# Altium footprint library NSC LDO.PcbLib: 95 footprints (part 6 of 6)
Each footprint in its own frame and in the unit in brackets; x right, y up, seen from the top. Pads: shape width x height; smd on the part's side, far side on the other; paste and mask are expansions set on the pad; w line width, h text height; cw(c..) or ccw(c..) is an arc to the next point about the centre after c.
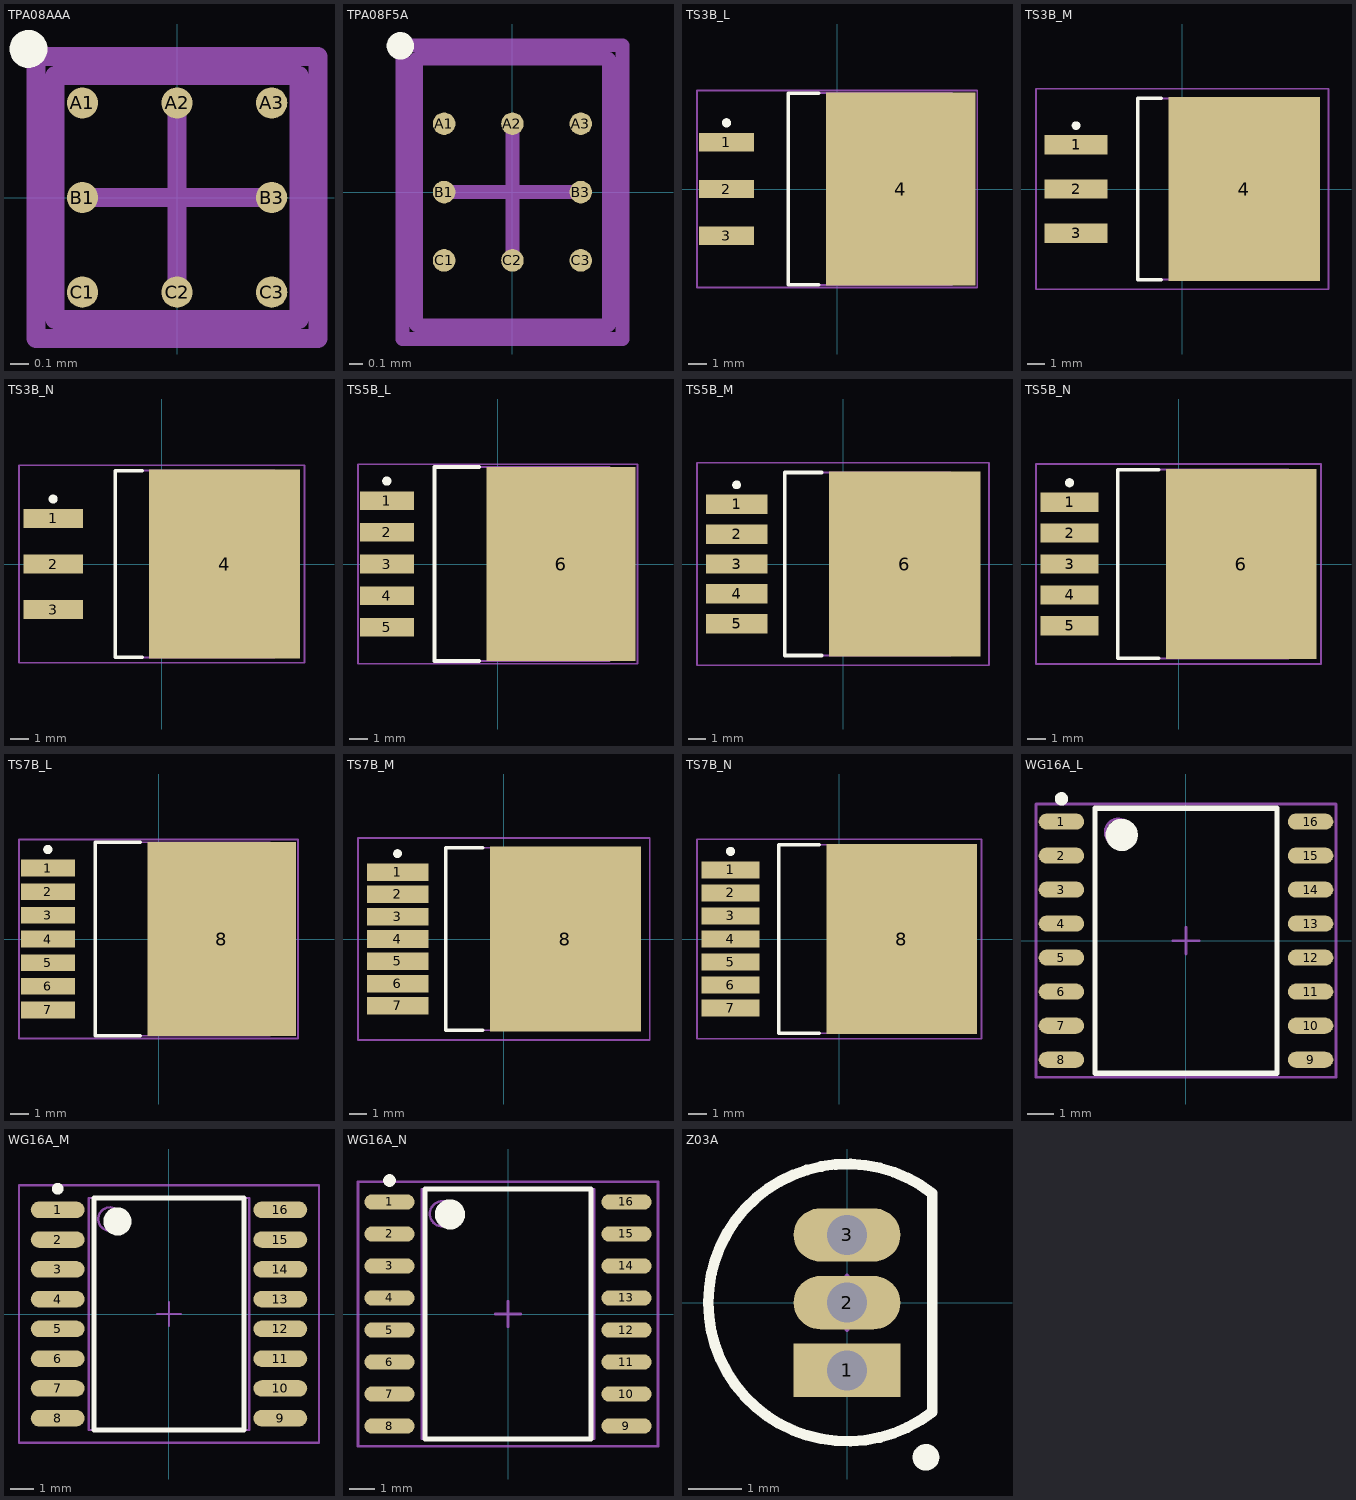
[diagram p5: the footprints below, top view; thin cyan lines are the x and y axes]

## TPA08AAA [mm] "Micro SMD, 8-Leads, Body 1.29x1.29mm, Pitch 0.5mm, NSC Recommended"
height 0.58
pads (8):
  round 0.165 smd paste-0.082 mask+0.05: A1(-0.5,0.5) A2(0,0.5) A3(0.5,0.5) B1(-0.5,0) B3(0.5,0) C1(-0.5,-0.5) C2(0,-0.5) C3(0.5,-0.5)
Top Overlay:
  circle w0.1: c-0.785,0.785 r0.05
Top Paste:
  circle w0.05: c0.625,0.425 r0.025
  circle w0.05: c0.425,0.625 r0.025
  circle w0.05: c0.425,0.425 r0.025
  circle w0.05: c0.625,0.625 r0.025
  circle w0.05: c-0.425,0.425 r0.025
  circle w0.05: c-0.625,0.625 r0.025
  circle w0.05: c-0.625,0.425 r0.025
  circle w0.05: c-0.425,0.625 r0.025
  circle w0.05: c0.1,0.425 r0.025
  circle w0.05: c-0.1,0.625 r0.025
  circle w0.05: c-0.1,0.425 r0.025
  circle w0.05: c0.1,0.625 r0.025
  circle w0.05: c0.1,-0.425 r0.025
  circle w0.05: c-0.1,-0.625 r0.025
  circle w0.05: c-0.1,-0.425 r0.025
  circle w0.05: c0.1,-0.625 r0.025
  circle w0.05: c-0.425,-0.425 r0.025
  circle w0.05: c-0.625,-0.625 r0.025
  circle w0.05: c-0.625,-0.425 r0.025
  circle w0.05: c-0.425,-0.625 r0.025
  circle w0.05: c0.625,-0.425 r0.025
  circle w0.05: c0.425,-0.625 r0.025
  circle w0.05: c0.425,-0.425 r0.025
  circle w0.05: c0.625,-0.625 r0.025
  circle w0.05: c0.625,-0.1 r0.025
  circle w0.05: c0.425,0.1 r0.025
  circle w0.05: c0.425,-0.1 r0.025
  circle w0.05: c0.625,0.1 r0.025
  circle w0.05: c-0.425,0.1 r0.025
  circle w0.05: c-0.625,-0.1 r0.025
  circle w0.05: c-0.625,0.1 r0.025
  circle w0.05: c-0.425,-0.1 r0.025
  rectangle: 0.425,0.375 0.625,0.425
  region: 0.625,0.675 0.425,0.675 0.425,0.625 0.625,0.625
  region: 0.375,0.625 0.375,0.425 0.425,0.425 0.425,0.625
  region: 0.425,0.625 0.425,0.425 0.625,0.425 0.625,0.625
  region: 0.675,0.425 0.675,0.625 0.625,0.625 0.625,0.425
  rectangle: -0.625,0.375 -0.425,0.425
  region: -0.425,0.675 -0.625,0.675 -0.625,0.625 -0.425,0.625
  region: -0.675,0.625 -0.675,0.425 -0.625,0.425 -0.625,0.625
  region: -0.625,0.625 -0.625,0.425 -0.425,0.425 -0.425,0.625
  region: -0.375,0.425 -0.375,0.625 -0.425,0.625 -0.425,0.425
  rectangle: -0.1,0.375 0.1,0.425
  region: 0.1,0.675 -0.1,0.675 -0.1,0.625 0.1,0.625
  region: -0.15,0.625 -0.15,0.425 -0.1,0.425 -0.1,0.625
  region: -0.1,0.625 -0.1,0.425 0.1,0.425 0.1,0.625
  region: 0.15,0.425 0.15,0.625 0.1,0.625 0.1,0.425
  region: 0.15,-0.625 0.15,-0.425 0.1,-0.425 0.1,-0.625
  region: -0.1,-0.425 -0.1,-0.625 0.1,-0.625 0.1,-0.425
  region: -0.15,-0.425 -0.15,-0.625 -0.1,-0.625 -0.1,-0.425
  region: 0.1,-0.375 -0.1,-0.375 -0.1,-0.425 0.1,-0.425
  rectangle: -0.1,-0.675 0.1,-0.625
  region: -0.375,-0.625 -0.375,-0.425 -0.425,-0.425 -0.425,-0.625
  region: -0.625,-0.425 -0.625,-0.625 -0.425,-0.625 -0.425,-0.425
  region: -0.675,-0.425 -0.675,-0.625 -0.625,-0.625 -0.625,-0.425
  region: -0.425,-0.375 -0.625,-0.375 -0.625,-0.425 -0.425,-0.425
  rectangle: -0.625,-0.675 -0.425,-0.625
  region: 0.675,-0.625 0.675,-0.425 0.625,-0.425 0.625,-0.625
  region: 0.425,-0.425 0.425,-0.625 0.625,-0.625 0.625,-0.425
  region: 0.375,-0.425 0.375,-0.625 0.425,-0.625 0.425,-0.425
  region: 0.625,-0.375 0.425,-0.375 0.425,-0.425 0.625,-0.425
  rectangle: 0.425,-0.675 0.625,-0.625
  rectangle: 0.425,-0.15 0.625,-0.1
  region: 0.625,0.15 0.425,0.15 0.425,0.1 0.625,0.1
  region: 0.375,0.1 0.375,-0.1 0.425,-0.1 0.425,0.1
  region: 0.425,0.1 0.425,-0.1 0.625,-0.1 0.625,0.1
  region: 0.675,-0.1 0.675,0.1 0.625,0.1 0.625,-0.1
  region: -0.375,-0.1 -0.375,0.1 -0.425,0.1 -0.425,-0.1
  region: -0.625,0.1 -0.625,-0.1 -0.425,-0.1 -0.425,0.1
  region: -0.675,0.1 -0.675,-0.1 -0.625,-0.1 -0.625,0.1
  region: -0.425,0.15 -0.625,0.15 -0.625,0.1 -0.425,0.1
  rectangle: -0.625,-0.15 -0.425,-0.1
Mechanical 13:
  lines w0.1: -0.645,-0.645 0.645,-0.645 0.645,0.645 -0.645,0.645 -0.645,-0.645
Mechanical 15:
  lines w0.1: -0.5,0 0.5,0 ; 0,-0.5 0,0.5 ; -0.745,-0.745 0.745,-0.745 0.745,0.745 -0.745,0.745 -0.745,-0.745
3D body: height 0.58, standoff 0, extent -0.644,-0.644 0.644,0.644

## TPA08F5A [mm] "Micro SMD, 8-Leads, Body 1.95x1.41mm, Pitch 0.5mm, NSC Recommended"
height 0.58
pads (8):
  round 0.165 smd paste-0.082 mask+0.05: A1(-0.5,0.5) A2(0,0.5) A3(0.5,0.5) B1(-0.5,0) B3(0.5,0) C1(-0.5,-0.5) C2(0,-0.5) C3(0.5,-0.5)
Top Overlay:
  circle w0.1: c-0.82,1.07 r0.05
Top Paste:
  circle w0.05: c0.625,0.425 r0.025
  circle w0.05: c0.425,0.625 r0.025
  circle w0.05: c0.425,0.425 r0.025
  circle w0.05: c0.625,0.625 r0.025
  circle w0.05: c-0.425,0.425 r0.025
  circle w0.05: c-0.625,0.625 r0.025
  circle w0.05: c-0.625,0.425 r0.025
  circle w0.05: c-0.425,0.625 r0.025
  circle w0.05: c0.1,0.425 r0.025
  circle w0.05: c-0.1,0.625 r0.025
  circle w0.05: c-0.1,0.425 r0.025
  circle w0.05: c0.1,0.625 r0.025
  circle w0.05: c0.1,-0.425 r0.025
  circle w0.05: c-0.1,-0.625 r0.025
  circle w0.05: c-0.1,-0.425 r0.025
  circle w0.05: c0.1,-0.625 r0.025
  circle w0.05: c-0.425,-0.425 r0.025
  circle w0.05: c-0.625,-0.625 r0.025
  circle w0.05: c-0.625,-0.425 r0.025
  circle w0.05: c-0.425,-0.625 r0.025
  circle w0.05: c0.625,-0.425 r0.025
  circle w0.05: c0.425,-0.625 r0.025
  circle w0.05: c0.425,-0.425 r0.025
  circle w0.05: c0.625,-0.625 r0.025
  circle w0.05: c0.625,-0.1 r0.025
  circle w0.05: c0.425,0.1 r0.025
  circle w0.05: c0.425,-0.1 r0.025
  circle w0.05: c0.625,0.1 r0.025
  circle w0.05: c-0.425,0.1 r0.025
  circle w0.05: c-0.625,-0.1 r0.025
  circle w0.05: c-0.625,0.1 r0.025
  circle w0.05: c-0.425,-0.1 r0.025
  rectangle: 0.425,0.375 0.625,0.425
  region: 0.625,0.675 0.425,0.675 0.425,0.625 0.625,0.625
  region: 0.375,0.625 0.375,0.425 0.425,0.425 0.425,0.625
  region: 0.425,0.625 0.425,0.425 0.625,0.425 0.625,0.625
  region: 0.675,0.425 0.675,0.625 0.625,0.625 0.625,0.425
  rectangle: -0.625,0.375 -0.425,0.425
  region: -0.425,0.675 -0.625,0.675 -0.625,0.625 -0.425,0.625
  region: -0.675,0.625 -0.675,0.425 -0.625,0.425 -0.625,0.625
  region: -0.625,0.625 -0.625,0.425 -0.425,0.425 -0.425,0.625
  region: -0.375,0.425 -0.375,0.625 -0.425,0.625 -0.425,0.425
  rectangle: -0.1,0.375 0.1,0.425
  region: 0.1,0.675 -0.1,0.675 -0.1,0.625 0.1,0.625
  region: -0.15,0.625 -0.15,0.425 -0.1,0.425 -0.1,0.625
  region: -0.1,0.625 -0.1,0.425 0.1,0.425 0.1,0.625
  region: 0.15,0.425 0.15,0.625 0.1,0.625 0.1,0.425
  region: 0.15,-0.625 0.15,-0.425 0.1,-0.425 0.1,-0.625
  region: -0.1,-0.425 -0.1,-0.625 0.1,-0.625 0.1,-0.425
  region: -0.15,-0.425 -0.15,-0.625 -0.1,-0.625 -0.1,-0.425
  region: 0.1,-0.375 -0.1,-0.375 -0.1,-0.425 0.1,-0.425
  rectangle: -0.1,-0.675 0.1,-0.625
  region: -0.375,-0.625 -0.375,-0.425 -0.425,-0.425 -0.425,-0.625
  region: -0.625,-0.425 -0.625,-0.625 -0.425,-0.625 -0.425,-0.425
  region: -0.675,-0.425 -0.675,-0.625 -0.625,-0.625 -0.625,-0.425
  region: -0.425,-0.375 -0.625,-0.375 -0.625,-0.425 -0.425,-0.425
  rectangle: -0.625,-0.675 -0.425,-0.625
  region: 0.675,-0.625 0.675,-0.425 0.625,-0.425 0.625,-0.625
  region: 0.425,-0.425 0.425,-0.625 0.625,-0.625 0.625,-0.425
  region: 0.375,-0.425 0.375,-0.625 0.425,-0.625 0.425,-0.425
  region: 0.625,-0.375 0.425,-0.375 0.425,-0.425 0.625,-0.425
  rectangle: 0.425,-0.675 0.625,-0.625
  rectangle: 0.425,-0.15 0.625,-0.1
  region: 0.625,0.15 0.425,0.15 0.425,0.1 0.625,0.1
  region: 0.375,0.1 0.375,-0.1 0.425,-0.1 0.425,0.1
  region: 0.425,0.1 0.425,-0.1 0.625,-0.1 0.625,0.1
  region: 0.675,-0.1 0.675,0.1 0.625,0.1 0.625,-0.1
  region: -0.375,-0.1 -0.375,0.1 -0.425,0.1 -0.425,-0.1
  region: -0.625,0.1 -0.625,-0.1 -0.425,-0.1 -0.425,0.1
  region: -0.675,0.1 -0.675,-0.1 -0.625,-0.1 -0.625,0.1
  region: -0.425,0.15 -0.625,0.15 -0.625,0.1 -0.425,0.1
  rectangle: -0.625,-0.15 -0.425,-0.1
Mechanical 13:
  lines w0.1: -0.705,-0.975 0.705,-0.975 0.705,0.975 -0.705,0.975 -0.705,-0.975
Mechanical 15:
  lines w0.1: -0.5,0 0.5,0 ; 0,-0.5 0,0.5 ; -0.805,-1.075 0.805,-1.075 0.805,1.075 -0.805,1.075 -0.805,-1.075
3D body: height 0.58, standoff 0, extent -0.704,-0.974 0.704,0.974

## TS3B_L [mm] "D2-PAK, 4-Leads, Body 8.6x10.2mm, Pitch 2.54mm, Lead Span 14.2mm, IPC High Density"
height 4.64
pads (4):
  rect 3x1 smd: 1(-6,2.54) 2(-6,0) 3(-6,-2.54)
  rect 8.1x10.45 smd: 4(3.45,0)
Top Overlay:
  circle w0.25: c-6,3.59 r0.125
  lines w0.2: -1,-5.2 -2.65,-5.2 -2.65,5.2 -1,5.2
Mechanical 13:
  lines w0.1: -2.65,-5.2 6.24,-5.2 6.24,5.2 -2.65,5.2 -2.65,-5.2
Mechanical 15:
  lines w0.1: -0.5,0 0.5,0 ; 0,-0.5 0,0.5 ; -7.6,-5.35 7.6,-5.35 7.6,5.35 -7.6,5.35 -7.6,-5.35
3D body: height 4.64, standoff 0, extent -2.649,-5.199 6.239,5.199

## TS3B_M [mm] "D2-PAK, 4-Leads, Body 8.6x10.2mm, Pitch 2.54mm, Lead Span 14.2mm, IPC Low Density"
height 4.64
pads (4):
  rect 3.6x1.1 smd: 1(-6.1,2.54) 2(-6.1,0) 3(-6.1,-2.54)
  rect 8.7x10.55 smd: 4(3.55,0)
Top Overlay:
  circle w0.25: c-6.1,3.64 r0.125
  lines w0.2: -1.2,-5.2 -2.55,-5.2 -2.55,5.2 -1.2,5.2
Mechanical 13:
  lines w0.1: -2.55,-5.2 6.34,-5.2 6.34,5.2 -2.55,5.2 -2.55,-5.2
Mechanical 15:
  lines w0.1: -0.5,0 0.5,0 ; 0,-0.5 0,0.5 ; -8.4,-5.75 8.4,-5.75 8.4,5.75 -8.4,5.75 -8.4,-5.75
3D body: height 4.64, standoff 0, extent -2.549,-5.199 6.339,5.199

## TS3B_N [mm] "D2-PAK, 4-Leads, Body 8.6x10.2mm, Pitch 2.54mm, Lead Span 14.2mm, IPC Medium Density"
height 4.64
pads (4):
  rect 3.3x1.05 smd: 1(-6.05,2.54) 2(-6.05,0) 3(-6.05,-2.54)
  rect 8.4x10.5 smd: 4(3.5,0)
Top Overlay:
  circle w0.25: c-6.05,3.615 r0.125
  lines w0.2: -1.1,-5.2 -2.6,-5.2 -2.6,5.2 -1.1,5.2
Mechanical 13:
  lines w0.1: -2.6,-5.2 6.29,-5.2 6.29,5.2 -2.6,5.2 -2.6,-5.2
Mechanical 15:
  lines w0.1: -0.5,0 0.5,0 ; 0,-0.5 0,0.5 ; -7.95,-5.5 7.95,-5.5 7.95,5.5 -7.95,5.5 -7.95,-5.5
3D body: height 4.64, standoff 0, extent -2.599,-5.199 6.289,5.199

## TS5B_L [mm] "D2-PAK, 6-Leads, Body 8.6x10.2mm, Pitch 1.7mm, Lead Span 14.1mm, IPC High Density"
height 4.65
pads (6):
  rect 2.9x1 smd: 1(-5.95,3.4) 2(-5.95,1.7) 3(-5.95,0) 4(-5.95,-1.7) 5(-5.95,-3.4)
  rect 8x10.4 smd: 6(3.4,0)
Top Overlay:
  circle w0.25: c-5.95,4.45 r0.125
  lines w0.2: -1,-5.2 -3.4,-5.2 -3.4,5.2 -1,5.2
Mechanical 13:
  lines w0.1: -3.4,-5.2 -3.4,5.2 6,5.2 6,-5.2 -3.4,-5.2
Mechanical 15:
  lines w0.1: -0.5,0 0.5,0 ; 0,-0.5 0,0.5 ; -7.5,-5.35 -7.5,5.35 7.5,5.35 7.5,-5.35 -7.5,-5.35
3D body: height 4.65, standoff 0, extent -3.4,-5.2 6,5.2

## TS5B_M [mm] "D2-PAK, 6-Leads, Body 8.6x10.2mm, Pitch 1.7mm, Lead Span 14.1mm, IPC Low Density"
height 4.65
pads (6):
  rect 3.5x1.1 smd: 1(-6.05,3.4) 2(-6.05,1.7) 3(-6.05,0) 4(-6.05,-1.7) 5(-6.05,-3.4)
  rect 8.6x10.5 smd: 6(3.5,0)
Top Overlay:
  circle w0.25: c-6.05,4.5 r0.125
  lines w0.2: -1.2,-5.2 -3.3,-5.2 -3.3,5.2 -1.2,5.2
Mechanical 13:
  lines w0.1: -3.3,-5.2 6.1,-5.2 6.1,5.2 -3.3,5.2 -3.3,-5.2
Mechanical 15:
  lines w0.1: -0.5,0 0.5,0 ; 0,-0.5 0,0.5 ; -8.3,-5.75 8.3,-5.75 8.3,5.75 -8.3,5.75 -8.3,-5.75
3D body: height 4.65, standoff 0, extent -3.3,-5.2 6.1,5.2

## TS5B_N [mm] "D2-PAK, 6-Leads, Body 8.6x10.2mm, Pitch 1.7mm, Lead Span 14.1mm, IPC Medium Density"
height 4.65
pads (6):
  rect 3.2x1.05 smd: 1(-6,3.4) 2(-6,1.7) 3(-6,0) 4(-6,-1.7) 5(-6,-3.4)
  rect 8.3x10.45 smd: 6(3.45,0)
Top Overlay:
  circle w0.25: c-6,4.475 r0.125
  lines w0.2: -1.1,-5.2 -3.35,-5.2 -3.35,5.2 -1.1,5.2
Mechanical 13:
  lines w0.1: -3.35,-5.2 6.05,-5.2 6.05,5.2 -3.35,5.2 -3.35,-5.2
Mechanical 15:
  lines w0.1: -0.5,0 0.5,0 ; 0,-0.5 0,0.5 ; -7.85,-5.5 7.85,-5.5 7.85,5.5 -7.85,5.5 -7.85,-5.5
3D body: height 4.65, standoff 0, extent -3.35,-5.2 6.05,5.2

## TS7B_L [mm] "D2-PAK, 8-Leads, Body 8.6x10.2mm, Pitch 1.27mm, Lead Span 14.1mm, IPC High Density"
height 4.64
pads (8):
  rect 2.9x0.9 smd: 1(-5.95,3.81) 2(-5.95,2.54) 3(-5.95,1.27) 4(-5.95,0) 5(-5.95,-1.27) 6(-5.95,-2.54) 7(-5.95,-3.81)
  rect 8x10.45 smd: 8(3.4,0)
Top Overlay:
  circle w0.25: c-5.95,4.81 r0.125
  lines w0.2: -1,-5.2 -3.4,-5.2 -3.4,5.2 -1,5.2
Mechanical 13:
  lines w0.1: -3.4,-5.2 -3.4,5.2 6,5.2 6,-5.2 -3.4,-5.2
Mechanical 15:
  lines w0.1: -0.5,0 0.5,0 ; 0,-0.5 0,0.5 ; -7.5,-5.35 -7.5,5.35 7.5,5.35 7.5,-5.35 -7.5,-5.35
3D body: height 4.64, standoff 0, extent -3.4,-5.2 6,5.2

## TS7B_M [mm] "D2-PAK, 8-Leads, Body 8.6x10.2mm, Pitch 1.27mm, Lead Span 14.1mm, IPC Low Density"
height 4.64
pads (8):
  rect 3.5x1 smd: 1(-6.05,3.81) 2(-6.05,2.54) 3(-6.05,1.27) 4(-6.05,0) 5(-6.05,-1.27) 6(-6.05,-2.54) 7(-6.05,-3.81)
  rect 8.6x10.55 smd: 8(3.5,0)
Top Overlay:
  circle w0.25: c-6.05,4.86 r0.125
  lines w0.2: -1.2,-5.2 -3.3,-5.2 -3.3,5.2 -1.2,5.2
Mechanical 13:
  lines w0.1: -3.3,-5.2 -3.3,5.2 6.1,5.2 6.1,-5.2 -3.3,-5.2
Mechanical 15:
  lines w0.1: -0.5,0 0.5,0 ; 0,-0.5 0,0.5 ; -8.3,-5.75 -8.3,5.75 8.3,5.75 8.3,-5.75 -8.3,-5.75
3D body: height 4.64, standoff 0, extent -3.3,-5.2 6.1,5.2

## TS7B_N [mm] "D2-PAK, 8-Leads, Body 8.6x10.2mm, Pitch 1.27mm, Lead Span 14.1mm, IPC Medium Density"
height 4.64
pads (8):
  rect 3.2x0.95 smd: 1(-6,3.81) 2(-6,2.54) 3(-6,1.27) 4(-6,0) 5(-6,-1.27) 6(-6,-2.54) 7(-6,-3.81)
  rect 8.3x10.5 smd: 8(3.45,0)
Top Overlay:
  circle w0.25: c-6,4.835 r0.125
  lines w0.2: -1.1,-5.2 -3.35,-5.2 -3.35,5.2 -1.1,5.2
Mechanical 13:
  lines w0.1: -3.35,-5.2 -3.35,5.2 6.05,5.2 6.05,-5.2 -3.35,-5.2
Mechanical 15:
  lines w0.1: -0.5,0 0.5,0 ; 0,-0.5 0,0.5 ; -7.85,-5.5 -7.85,5.5 7.85,5.5 7.85,-5.5 -7.85,-5.5
3D body: height 4.64, standoff 0, extent -3.35,-5.2 6.05,5.2

## WG16A_L [mm] "CERPACK, 16-Leads, Body 9.9x6.5mm, Pitch 1.27mm, IPC High Density"
height 2.24
pads (16):
  oval 1.7x0.6 smd: 1(-4.65,4.445) 2(-4.65,3.175) 3(-4.65,1.905) 4(-4.65,0.635) 5(-4.65,-0.635) 6(-4.65,-1.905) 7(-4.65,-3.175) 8(-4.65,-4.445) 9(4.65,-4.445) 10(4.65,-3.175) 11(4.65,-1.905) 12(4.65,-0.635) 13(4.65,0.635) 14(4.65,1.905) 15(4.65,3.175) 16(4.65,4.445)
Top Overlay:
  circle w0.25: c-4.65,5.295 r0.125
  circle w0.6: c-2.4,3.95 r0.3
  lines w0.2: -3.4,-4.95 -3.4,4.95 3.4,4.95 3.4,-4.95 -3.4,-4.95
Mechanical 13:
  circle w0.1: c-2.52,4.05 r0.5
  lines w0.1: -3.425,-4.95 -3.425,4.95 3.425,4.95 3.425,-4.95 -3.425,-4.95
Mechanical 15:
  lines w0.1: -0.5,0 0.5,0 ; 0,-0.5 0,0.5 ; -5.6,-5.1 -5.6,5.1 5.6,5.1 5.6,-5.1 -5.6,-5.1
3D body: height 2.24, standoff 0.1, extent -3.424,-4.949 3.424,4.949

## WG16A_M [mm] "CERPACK, 16-Leads, Body 9.9x6.5mm, Pitch 1.27mm, IPC Low Density"
height 2.24
pads (16):
  oval 2.3x0.7 smd: 1(-4.75,4.445) 2(-4.75,3.175) 3(-4.75,1.905) 4(-4.75,0.635) 5(-4.75,-0.635) 6(-4.75,-1.905) 7(-4.75,-3.175) 8(-4.75,-4.445) 9(4.75,-4.445) 10(4.75,-3.175) 11(4.75,-1.905) 12(4.75,-0.635) 13(4.75,0.635) 14(4.75,1.905) 15(4.75,3.175) 16(4.75,4.445)
Top Overlay:
  circle w0.25: c-4.75,5.345 r0.125
  circle w0.6: c-2.2,3.95 r0.3
  lines w0.2: -3.2,-4.95 -3.2,4.95 3.2,4.95 3.2,-4.95 -3.2,-4.95
Mechanical 13:
  circle w0.1: c-2.52,4.05 r0.5
  lines w0.1: -3.425,-4.95 -3.425,4.95 3.425,4.95 3.425,-4.95 -3.425,-4.95
Mechanical 15:
  lines w0.1: -0.5,0 0.5,0 ; 0,-0.5 0,0.5 ; -6.4,-5.5 -6.4,5.5 6.4,5.5 6.4,-5.5 -6.4,-5.5
3D body: height 2.24, standoff 0.1, extent -3.424,-4.949 3.424,4.949

## WG16A_N [mm] "CERPACK, 16-Leads, Body 9.9x6.5mm, Pitch 1.27mm, IPC Medium Density"
height 2.24
pads (16):
  oval 2x0.6 smd: 1(-4.7,4.445) 2(-4.7,3.175) 3(-4.7,1.905) 4(-4.7,0.635) 5(-4.7,-0.635) 6(-4.7,-1.905) 7(-4.7,-3.175) 8(-4.7,-4.445) 9(4.7,-4.445) 10(4.7,-3.175) 11(4.7,-1.905) 12(4.7,-0.635) 13(4.7,0.635) 14(4.7,1.905) 15(4.7,3.175) 16(4.7,4.445)
Top Overlay:
  circle w0.6: c-2.3,3.95 r0.3
  circle w0.25: c-4.7,5.295 r0.125
  lines w0.2: -3.3,-4.95 3.3,-4.95 3.3,4.95 -3.3,4.95 -3.3,-4.95
Mechanical 13:
  circle w0.1: c-2.6,3.975 r0.5
  lines w0.1: -3.425,-4.95 3.425,-4.95 3.425,4.95 -3.425,4.95 -3.425,-4.95
Mechanical 15:
  lines w0.1: -0.5,0 0.5,0 ; 0,-0.5 0,0.5 ; -5.95,-5.25 5.95,-5.25 5.95,5.25 -5.95,5.25 -5.95,-5.25
3D body: height 2.24, standoff 0.1, extent -3.424,-4.949 3.424,4.949

## Z03A [mm] "TO, Flat Index; 3 In-Line, Axial Leads; Body Dia. 5mm; Leads 0.55 x 0.50 mm (max)"
height 5.2
pads (3):
  rect 2x1 hole 0.75: 1(0,-1.27)
  oval 2x1 hole 0.75: 2(0,0) 3(0,1.27)
Top Overlay:
  circle w0.25: c1.48,-2.9 r0.125
  lines w0.2: 1.601,-2.049 cw(c0,0) 1.601,2.049 1.6,-2.049
Mechanical 13:
  lines w0.1: 1.601,-2.049 cw(c0,0) 1.601,2.049 1.6,-2.049
Mechanical 15:
  lines w0.1: -0.5,0 0.5,0 ; 0,-0.5 0,0.5
3D body: height 5.2, standoff 0, extent -2.612,-2.612 1.6,2.612